# Altium footprint library Light.PcbLib: 1 footprints
Each footprint in its own frame and in the unit in brackets; x right, y up, seen from the top. Pads: shape width x height; smd on the part's side, far side on the other; paste and mask are expansions set on the pad; w line width, h text height; cw(c..) or ccw(c..) is an arc to the next point about the centre after c.
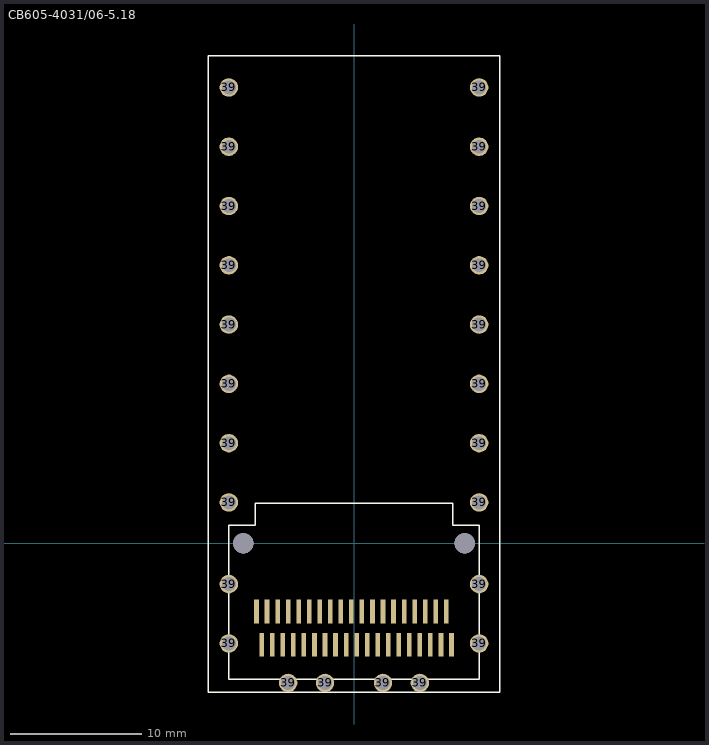
[diagram p0: the footprint, top view; thin cyan lines are the x and y axes]

## CB605-4031/06-5.18 [mm]
pads (64):
  rect 0.35x1.8 smd: 1(7,-5.18) 2(6.2,-5.18) 3(5.4,-5.18) 4(4.6,-5.18) 5(3.8,-5.18) 6(3,-5.18) 7(2.2,-5.18) 8(1.4,-5.18) 9(0.6,-5.18) 10(-0.2,-5.18) 11(-1,-5.18) 12(-1.8,-5.18) 13(-2.6,-5.18) 14(-3.4,-5.18) 15(-4.2,-5.18) 16(-5,-5.18) 17(-5.8,-5.18) 18(-6.6,-5.18) 19(-7.4,-5.18) 20(-7,-7.69) 21(-6.2,-7.69) 22(-5.4,-7.69) 23(-4.6,-7.69) 24(-3.8,-7.69) 25(-3,-7.69) 26(-2.2,-7.69) 27(-1.4,-7.69) 28(-0.6,-7.69) 29(0.2,-7.69) 30(1,-7.69) 31(1.8,-7.69) 32(2.6,-7.69) 33(3.4,-7.69) 34(4.2,-7.69) 35(5,-7.69) 36(5.8,-7.69) 37(6.6,-7.69) 38(7.4,-7.69)
  round 1.4 hole 1.05: 39(-9.5,-7.6) 39(-9.5,-3.1) 39(-9.5,3.1) 39(-9.5,7.6) 39(-9.5,12.1) 39(-9.5,16.6) 39(-9.5,21.1) 39(-9.5,25.6) 39(-9.5,30.1) 39(-9.5,34.6) 39(-5,-10.6) 39(-2.2,-10.6) 39(2.2,-10.6) 39(5,-10.6) 39(9.5,-7.6) 39(9.5,-3.1) 39(9.5,3.1) 39(9.5,7.6) 39(9.5,12.1) 39(9.5,16.6) 39(9.5,21.1) 39(9.5,25.6) 39(9.5,30.1) 39(9.5,34.6)
  round 1.55 hole 1.55: ""(-8.4,0) ""(8.4,0)
Top Overlay:
  lines w0.1: -11.075,-11.3 11.075,-11.3 11.075,37 -11.075,37 -11.075,-11.3 ; -9.5,-10.3 9.5,-10.3 9.5,1.36 7.51,1.36 7.51,3.05 -7.51,3.05 -7.51,1.36 -9.5,1.36 -9.5,-10.3